# Altium footprint library PcbLib1.PcbLib: 16 footprints
Each footprint in its own frame and in the unit in brackets; x right, y up, seen from the top. Pads: shape width x height; smd on the part's side, far side on the other; paste and mask are expansions set on the pad; w line width, h text height; cw(c..) or ccw(c..) is an arc to the next point about the centre after c.
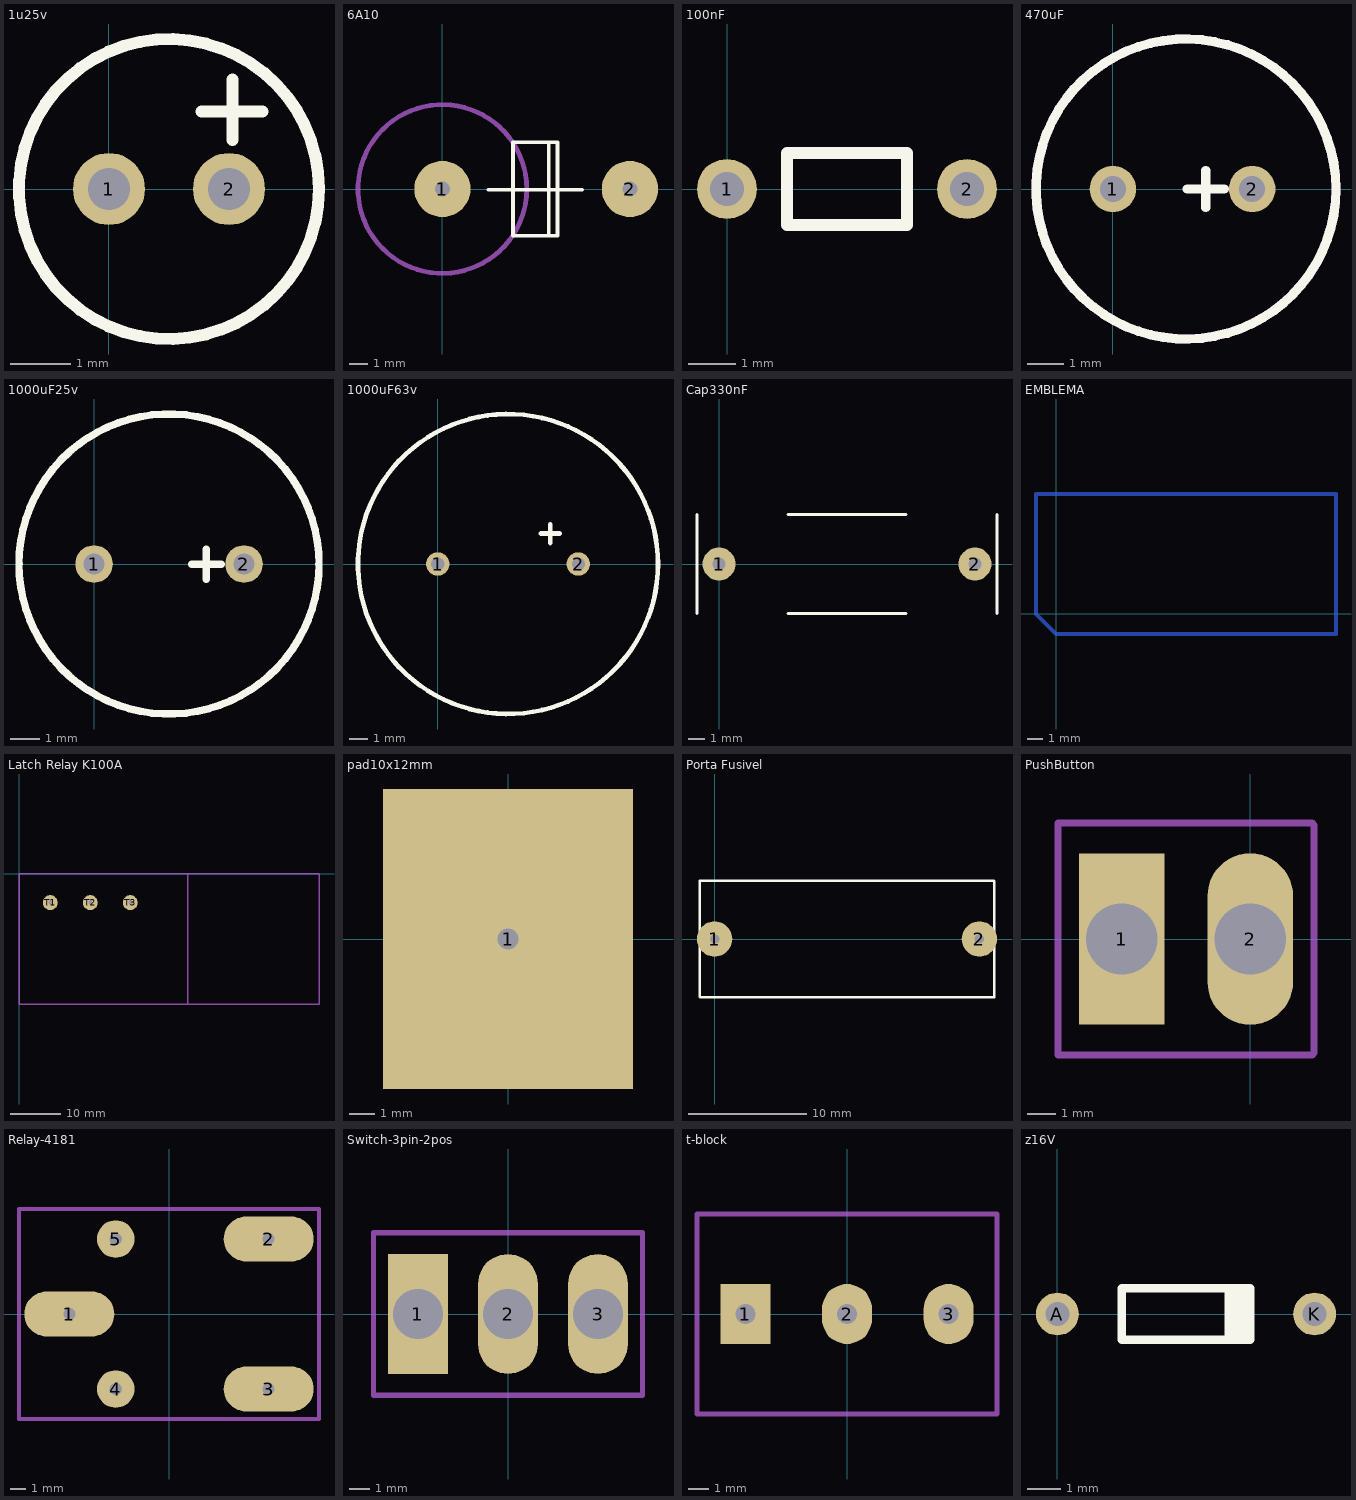
[diagram p0: the footprints below, top view; thin cyan lines are the x and y axes]

## 1u25v [mm]
pads (2):
  round 1.2 hole 0.7: 1(0,0) 2(2,0)
Top Overlay:
  circle w0.2: c1,0 r2.5
  lines w0.2: 1.544,1.295 2.56,1.295 ; 2.057,0.813 2.057,1.829

## 6A10 [mm]
pads (2):
  round 3 hole 0.8: 1(0,0) 2(10,0)
Top Overlay:
  lines w0.2: 2.453,-0.046 7.453,-0.046 ; 3.764,-2.5 3.764,2.5 ; 3.786,-2.5 6.136,-2.5 6.136,2.5 3.786,2.5 ; 5.669,-2.5 5.669,2.5
Mechanical 1:
  circle w0.254: c0,0 r4.5

## 100nF [mil]
pads (2):
  round 50 hole 28: 1(0,0) 2(200,0)
Top Overlay:
  lines w10: 50,-30 50,30 150,30 150,-30 50,-30

## 470uF [mil]
pads (2):
  round 50 hole 28: 1(0,0) 2(150,0)
Top Overlay:
  circle w10: c78.74,0 r161.42
  lines w10: 80,0 120,0 ; 100,-20 100,20
Mechanical 1:
  circle w10: c78.74,0 r161.42

## 1000uF25v [mil]
pads (2):
  round 50 hole 28: 1(0,0) 2(200,0)
Top Overlay:
  circle w10: c100,0 r200
  lines w10: 130,0 170,0 ; 150,-20 150,20

## 1000uF63v [mil]
pads (2):
  round 50 hole 28: 1(0,0) 2(300,0)
Top Overlay:
  circle w10: c150,0 r320
  lines w10: 220,65 260,65 ; 240,45 240,85

## Cap330nF [mm]
pads (2):
  round 2 hole 0.8: 1(0,0) 2(15.5,0)
Top Overlay:
  lines w0.2: -1.337,-3 -1.337,0 -1.337,3 ; 4.175,-3 11.325,-3 ; 4.175,3 11.325,3 ; 16.837,-3 16.837,0 16.837,3

## EMBLEMA [mm]
Bottom Layer:
  lines w0.254: -1.27,0 0,-1.27 17.78,-1.27 17.78,7.62 -1.27,7.62 -1.27,0
  text "b_v160914" at 0,0 h1.52
  text "Zenite Solar" at 0,2.286 h1.52
  text "IFSC - LPEE" at 0,4.699 h1.52

## Latch Relay K100A [mm]
height 50
pads (3):
  round 3 hole 0.8 unplated: T1(6.25,-5.75) T2(14.25,-5.75) T3(22.25,-5.75)
Mechanical 1:
  lines w0.254: 0,-0.025 0,-26.025 60,-26.025 60,-0.025 ; 0,0 60,0 ; 33.75,-26.025 33.75,-0.025

## pad10x12mm [mm]
pads (1):
  rect 10x12 hole 0.82: 1(0,0)

## Porta Fusivel [mm]
pads (2):
  round 3 hole 0.8: 1(0,0) 2(22.5,0)
Top Overlay:
  lines w0.2: -1.27,-4.9 -1.27,4.9 ; -1.27,4.953 23.73,4.953 ; -1.23,-4.953 23.77,-4.953 ; 23.77,-4.9 23.77,4.9

## PushButton [mm]
height 13
pads (2):
  rect 3x6 hole 2.5 unplated: 1(-4.5,0)
  oval 3x6 hole 2.5 unplated: 2(0,0)
Mechanical 1:
  lines w0.254: -6.731,-4.064 0,-4.064 2.159,-4.064 2.231,-3.992 2.231,0 2.231,3.992 2.159,4.064 0,4.064 -6.731,4.064 -6.731,0 -6.731,-4.064

## Relay-4181 [mm]
height 13
pads (5):
  oval 6x3 hole 0.8 unplated: 1(-6.65,0) 2(6.65,5) 3(6.65,-5)
  round 2.5 hole 0.8 unplated: 4(-3.55,-5) 5(-3.55,5)
Mechanical 1:
  lines w0.254: -10,-7 10,-7 10,7 -10,7 -10,-7

## Switch-3pin-2pos [mm]
height 13
pads (3):
  rect 3x6 hole 2.5 unplated: 1(-4.5,0)
  oval 3x6 hole 2.5 unplated: 2(0,0) 3(4.5,0)
Mechanical 1:
  lines w0.254: -6.731,-4.064 -6.731,0 -6.731,4.064 0,4.064 6.731,4.064 6.731,0 6.731,-4.064 0,-4.064 -6.731,-4.064

## t-block [mm]
height 13
pads (3):
  rect 2.5x3 hole 1 unplated: 1(-5.08,0)
  oval 2.5x3 hole 1 unplated: 2(0,0) 3(5.08,0)
Mechanical 1:
  lines w0.254: -7.5,-5 -7.5,5 7.5,5 7.5,-5 -7.5,-5

## z16V [mil]
pads (2):
  round 50 hole 28: A(0,0) K(300,0)
Top Overlay:
  lines w10: 200,-30 200,30 ; 210,-30 210,30 ; 215,-30 215,30 ; 75,-30 225,-30 225,30 75,30 75,-30